# Altium schematic symbol library LAN Transformer.SchLib: 66 symbols
Pins are listed as number, name and electrical type; pins without a type are passive.

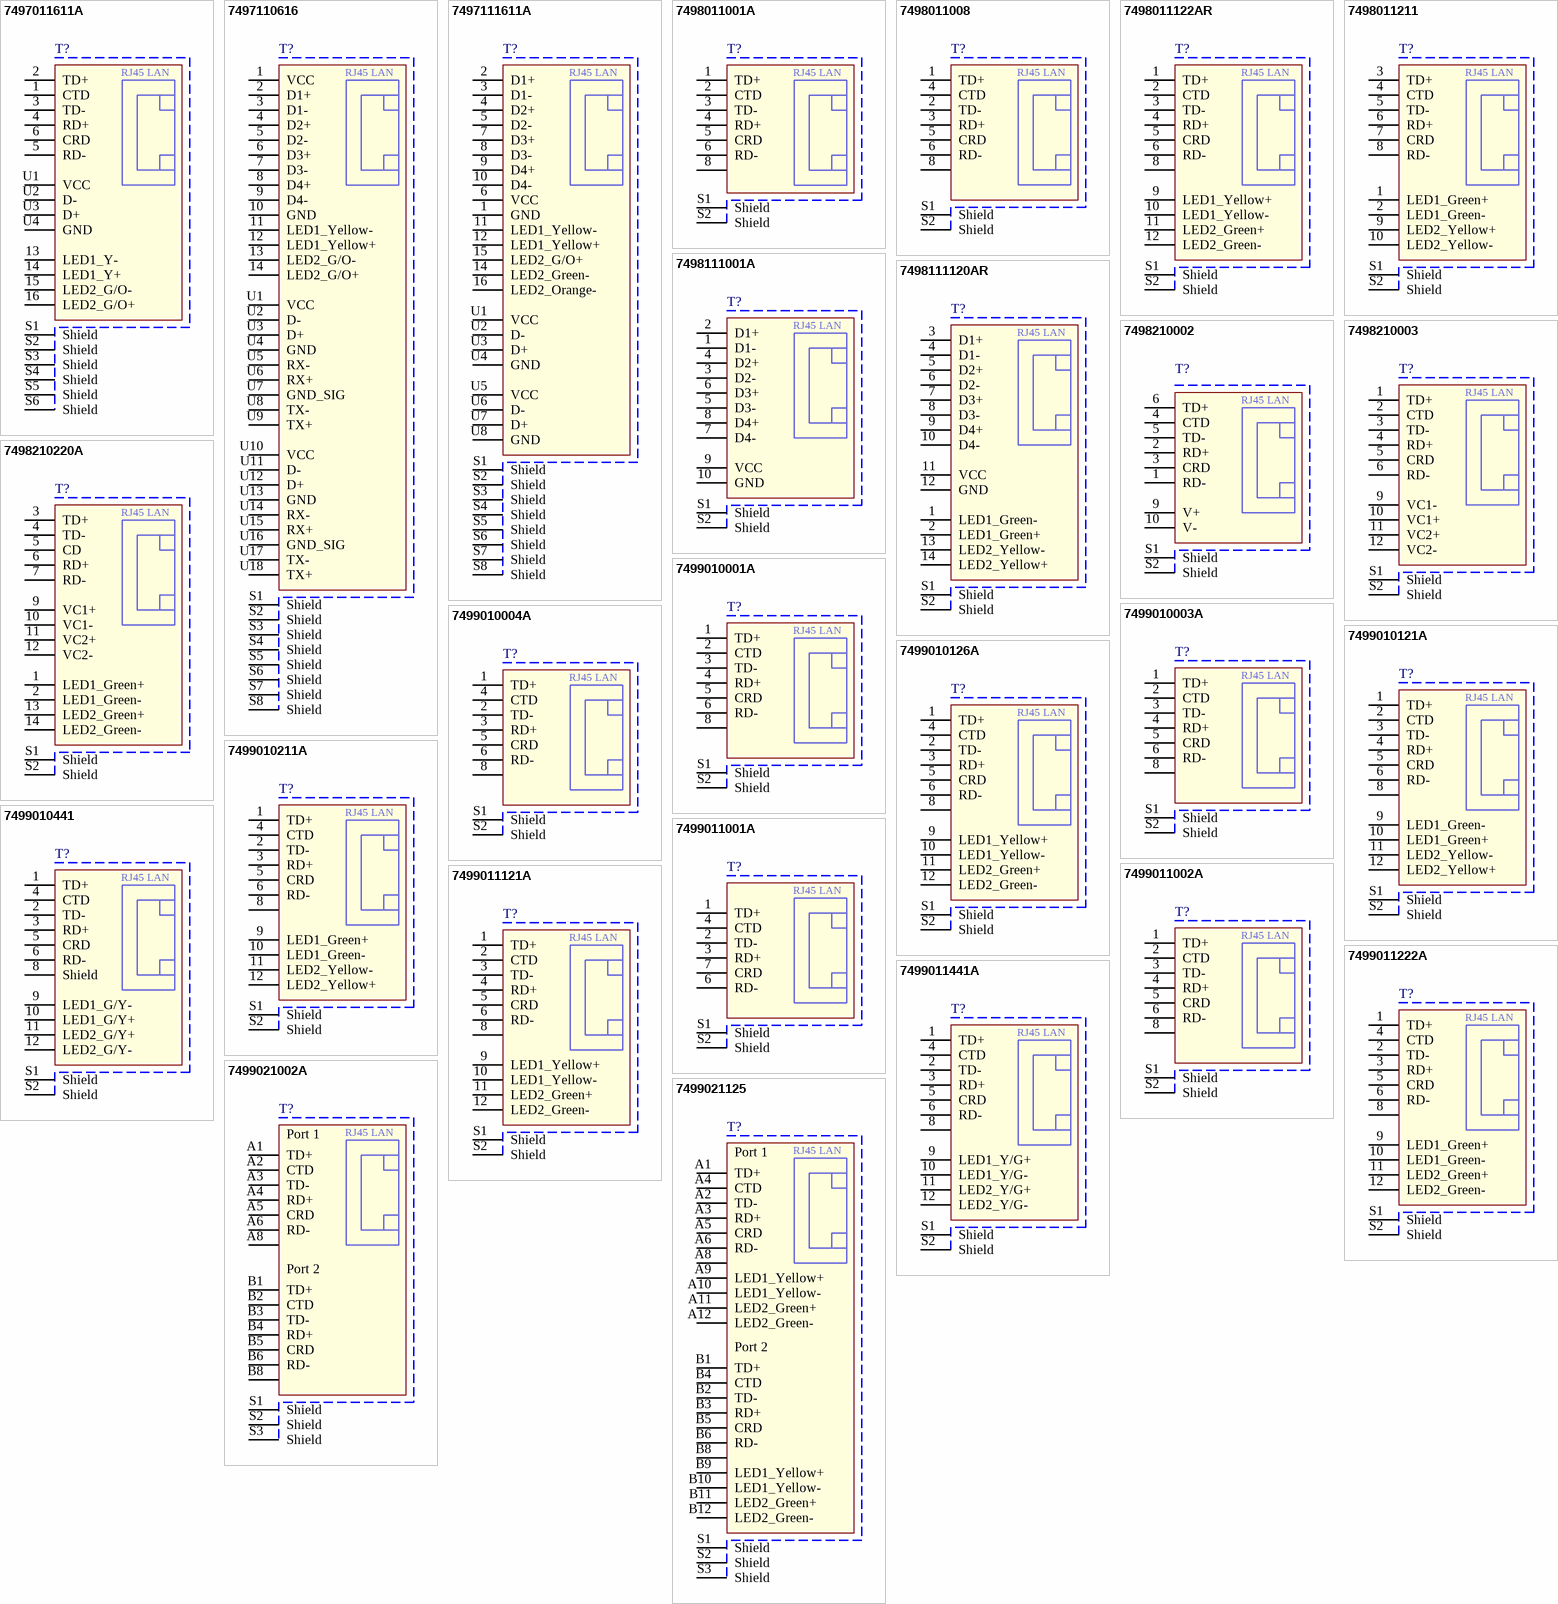
[diagram p0: symbols 7497011611A to 7499021125]

## 7497011611A
designator T?
WE-RJ45 LAN Transformer, 10/100 Base-T, THT, Port 1x1, Tab Up; Part Number: 7497011611A; PoE: non-PoE; LED (Left-Right): green/orange-yellow; USB: USB 2.0; ComponentLink1Description: Manufacturer; ComponentLink1URL: http://www.we-online.de; ComponentLink2Description: Datasheet; ComponentLink2URL: http://katalog.we-online.de/pbs/datasheet/7497011611A.pdf; Published Date: Dec. 2017; Publisher: Wurth Elektronik; Tab Position: Up; Port Number: 1x1; Data Rate: 10/100 Base-T; Operating Temperature: -40 to +85 degC; Mounting Technology: THT
footprint 7497011611A
pins: 1 CTD, 2 TD+, 3 TD-, 4 RD+, 5 RD-, 6 CRD, 13 LED1_Y-, 14 LED1_Y+, 15 LED2_G/O-, 16 LED2_G/O+, S1 Shield, S2 Shield, S3 Shield, S4 Shield, S5 Shield, S6 Shield, U1 VCC, U2 D-, U3 D+, U4 GND
text: RJ45 LAN

## 7497110616
designator T?
WE-RJ45 LAN Transformer, 10/100/1000 Base-T, THT, Port 1x1, Tab Up; Part Number: 7497110616; PoE: non-PoE; LED (Left-Right): yellow-green/orange; USB: USB 3.0; ComponentLink1Description: Manufacturer; ComponentLink1URL: http://www.we-online.de; ComponentLink2Description: Datasheet; ComponentLink2URL: http://katalog.we-online.de/pbs/datasheet/7497110616.pdf; Published Date: Dec. 2017; Publisher: Wurth Elektronik; Tab Position: Up; Port Number: 1x1; Data Rate: 10/100/1000 Base-T; Operating Temperature: -40 to +85 degC; Mounting Technology: THT
footprint 7497110616
pins: 1 VCC, 2 D1+, 3 D1-, 4 D2+, 5 D2-, 6 D3+, 7 D3-, 8 D4+, 9 D4-, 10 GND, 11 LED1_Yellow-, 12 LED1_Yellow+, 13 LED2_G/O-, 14 LED2_G/O+, S1 Shield, S2 Shield, S3 Shield, S4 Shield, S5 Shield, S6 Shield, S7 Shield, S8 Shield, U1 VCC, U2 D-, U3 D+, U4 GND, U5 RX-, U6 RX+, U7 GND_SIG, U8 TX-, U9 TX+, U10 VCC, U11 D-, U12 D+, U13 GND, U14 RX-, U15 RX+, U16 GND_SIG, U17 TX-, U18 TX+
text: RJ45 LAN

## 7497111611A
designator T?
WE-RJ45 LAN Transformer, 10/100/1000 Base-T, THT, Port 1x1, Tab Up; Part Number: 7497111611A; PoE: non-PoE; LED (Left-Right): green/orange-yellow; USB: USB 2.0; ComponentLink1Description: Manufacturer; ComponentLink1URL: http://www.we-online.de; ComponentLink2Description: Datasheet; ComponentLink2URL: http://katalog.we-online.de/pbs/datasheet/7497111611A.pdf; Published Date: Dec. 2017; Publisher: Wurth Elektronik; Tab Position: Up; Port Number: 1x1; Data Rate: 10/100/1000 Base-T; Operating Temperature: 0 to +70 degC; Mounting Technology: THT
footprint 7497111611A
pins: 1 GND, 2 D1+, 3 D1-, 4 D2+, 5 D2-, 6 VCC, 7 D3+, 8 D3-, 9 D4+, 10 D4-, 11 LED1_Yellow-, 12 LED1_Yellow+, 14 LED2_Green-, 15 LED2_G/O+, 16 LED2_Orange-, S1 Shield, S2 Shield, S3 Shield, S4 Shield, S5 Shield, S6 Shield, S7 Shield, S8 Shield, U1 VCC, U2 D-, U3 D+, U4 GND, U5 VCC, U6 D-, U7 D+, U8 GND
text: RJ45 LAN

## 7498011001A
designator T?
WE-RJ45 LAN Transformer, 10/100 Base-T, SMD, Port 1x1, Tab Down; Part Number: 7498011001A; PoE: non-PoE; LED (Left-Right): –; USB: No; ComponentLink1Description: Manufacturer; ComponentLink1URL: http://www.we-online.de; ComponentLink2Description: Datasheet; ComponentLink2URL: http://katalog.we-online.de/pbs/datasheet/7498011001A.pdf; Published Date: Dec. 2017; Publisher: Wurth Elektronik; Tab Position: Down; Port Number: 1x1; Data Rate: 10/100 Base-T; Operating Temperature: 0 to +70 degC; Mounting Technology: SMD
footprint 7498011001A
pins: 1 TD+, 2 CTD, 3 TD-, 4 RD+, 5 CRD, 6 RD-, 8, S1 Shield, S2 Shield
text: RJ45 LAN

## 7498011008
designator T?
WE-RJ45 LAN Transformer, 10/100 Base-T, SMD, Port 1x1, Tab Down; Part Number: 7498011008; PoE: non-PoE; LED (Left-Right): –; USB: No; ComponentLink1Description: Manufacturer; ComponentLink1URL: http://www.we-online.de; ComponentLink2Description: Datasheet; ComponentLink2URL: http://katalog.we-online.de/pbs/datasheet/7498011008.pdf; Published Date: Dec. 2017; Publisher: Wurth Elektronik; Tab Position: Down; Port Number: 1x1; Data Rate: 10/100 Base-T; Operating Temperature: -40 to +85 degC; Mounting Technology: SMD
footprint 7498011008
pins: 1 TD+, 2 TD-, 3 RD+, 4 CTD, 5 CRD, 6 RD-, 8, S1 Shield, S2 Shield
text: RJ45 LAN

## 7498011122AR
designator T?
WE-RJ45 LAN Transformer, 10/100 Base-T, SMD, Port 1x1, Tab Up; Part Number: 7498011122AR; PoE: non-PoE; LED (Left-Right): yellow-green; USB: No; ComponentLink1Description: Manufacturer; ComponentLink1URL: http://www.we-online.de; ComponentLink2Description: Datasheet; ComponentLink2URL: http://katalog.we-online.de/pbs/datasheet/7498011122AR.pdf; Published Date: Dec. 2017; Publisher: Wurth Elektronik; Tab Position: Up; Port Number: 1x1; Data Rate: 10/100 Base-T; Operating Temperature: -40 to +85 degC; Mounting Technology: SMD
footprint 7498011122AR
pins: 1 TD+, 2 CTD, 3 TD-, 4 RD+, 5 CRD, 6 RD-, 8, 9 LED1_Yellow+, 10 LED1_Yellow-, 11 LED2_Green+, 12 LED2_Green-, S1 Shield, S2 Shield
text: RJ45 LAN

## 7498011211
designator T?
WE-RJ45 LAN Transformer, 10/100 Base-T, SMD, Port 1x1, Tab Down; Part Number: 7498011211; PoE: non-PoE; LED (Left-Right): green-yellow; USB: No; ComponentLink1Description: Manufacturer; ComponentLink1URL: http://www.we-online.de; ComponentLink2Description: Datasheet; ComponentLink2URL: http://katalog.we-online.de/pbs/datasheet/7498011211.pdf; Published Date: Dec. 2017; Publisher: Wurth Elektronik; Tab Position: Down; Port Number: 1x1; Data Rate: 10/100 Base-T; Operating Temperature: 0 to +70 degC; Mounting Technology: SMD
footprint 7498011211
pins: 1 LED1_Green+, 2 LED1_Green-, 3 TD+, 4 CTD, 5 TD-, 6 RD+, 7 CRD, 8 RD-, 9 LED2_Yellow+, 10 LED2_Yellow-, S1 Shield, S2 Shield
text: RJ45 LAN

## 7498111001A
designator T?
WE-RJ45 LAN Transformer, 10/100/1000 Base-T, SMD, Port 1x1, Tab Up; Part Number: 7498111001A; PoE: non-PoE; LED (Left-Right): –; USB: No; ComponentLink1Description: Manufacturer; ComponentLink1URL: http://www.we-online.de; ComponentLink2Description: Datasheet; ComponentLink2URL: http://katalog.we-online.de/pbs/datasheet/7498111001A.pdf; Published Date: Dec. 2017; Publisher: Wurth Elektronik; Tab Position: Up; Port Number: 1x1; Data Rate: 10/100/1000 Base-T; Operating Temperature: 0 to +70 degC; Mounting Technology: SMD
footprint 7498111001A
pins: 1 D1-, 2 D1+, 3 D2-, 4 D2+, 5 D3-, 6 D3+, 7 D4-, 8 D4+, 9 VCC, 10 GND, S1 Shield, S2 Shield
text: RJ45 LAN

## 7498111120AR
designator T?
WE-RJ45 LAN Transformer, 10/100/1000 Base-T, SMD, Port 1x1, Tab Up; Part Number: 7498111120AR; PoE: non-PoE; LED (Left-Right): yellow-green; USB: No; ComponentLink1Description: Manufacturer; ComponentLink1URL: http://www.we-online.de; ComponentLink2Description: Datasheet; ComponentLink2URL: http://katalog.we-online.de/pbs/datasheet/7498111120AR.pdf; Published Date: Dec. 2017; Publisher: Wurth Elektronik; Tab Position: Up; Port Number: 1x1; Data Rate: 10/100/1000 Base-T; Operating Temperature: 0 to +70 degC; Mounting Technology: SMD
footprint 7498111120AR
pins: 1 LED1_Green-, 2 LED1_Green+, 3 D1+, 4 D1-, 5 D2+, 6 D2-, 7 D3+, 8 D3-, 9 D4+, 10 D4-, 11 VCC, 12 GND, 13 LED2_Yellow-, 14 LED2_Yellow+, S1 Shield, S2 Shield
text: RJ45 LAN

## 7498210002
designator T?
WE-RJ45 LAN Transformer, 10/100 Base-T, SMD, Port 1x1, Tab Down; Part Number: 7498210002; PoE: PoE (up to 350 mA); LED (Left-Right): –; USB: No; ComponentLink1Description: Manufacturer; ComponentLink1URL: http://www.we-online.de; ComponentLink2Description: Datasheet; ComponentLink2URL: http://katalog.we-online.de/pbs/datasheet/7498210002.pdf; Published Date: Dec. 2017; Publisher: Wurth Elektronik; Tab Position: Down; Port Number: 1x1; Data Rate: 10/100 Base-T; Operating Temperature: -40 to +85 degC; Mounting Technology: SMD
footprint 7498210002
pins: 1 RD-, 2 RD+, 3 CRD, 4 CTD, 5 TD-, 6 TD+, 9 V+, 10 V-, S1 Shield, S2 Shield
text: RJ45 LAN

## 7498210003
designator T?
WE-RJ45 LAN Transformer, 10/100 Base-T, SMD, Port 1x1, Tab Up; Part Number: 7498210003; PoE: PoE (up to 350 mA); LED (Left-Right): –; USB: No; ComponentLink1Description: Manufacturer; ComponentLink1URL: http://www.we-online.de; ComponentLink2Description: Datasheet; ComponentLink2URL: http://katalog.we-online.de/pbs/datasheet/7498210003.pdf; Published Date: Dec. 2017; Publisher: Wurth Elektronik; Tab Position: Up; Port Number: 1x1; Data Rate: 10/100 Base-T; Operating Temperature: -40 to +85 degC; Mounting Technology: SMD
footprint 7498210003
pins: 1 TD+, 2 CTD, 3 TD-, 4 RD+, 5 CRD, 6 RD-, 9 VC1-, 10 VC1+, 11 VC2+, 12 VC2-, S1 Shield, S2 Shield
text: RJ45 LAN

## 7498210220A
designator T?
WE-RJ45 LAN Transformer, 10/100 Base-T, SMD, Port 1x1, Tab Up; Part Number: 7498210220A; PoE: PoE (up to 350 mA); LED (Left-Right): green-green; USB: No; ComponentLink1Description: Manufacturer; ComponentLink1URL: http://www.we-online.de; ComponentLink2Description: Datasheet; ComponentLink2URL: http://katalog.we-online.de/pbs/datasheet/7498210220A.pdf; Published Date: Dec. 2017; Publisher: Wurth Elektronik; Tab Position: Up; Port Number: 1x1; Data Rate: 10/100 Base-T; Operating Temperature: -40 to +85 degC; Mounting Technology: SMD
footprint 7498210220A
pins: 1 LED1_Green+, 2 LED1_Green-, 3 TD+, 4 TD-, 5 CD, 6 RD+, 7 RD-, 9 VC1+, 10 VC1-, 11 VC2+, 12 VC2-, 13 LED2_Green+, 14 LED2_Green-, S1 Shield, S2 Shield
text: RJ45 LAN

## 7499010001A
designator T?
WE-RJ45 LAN Transformer, 10/100 Base-T, THT, Port 1x1, Tab Up; Part Number: 7499010001A; PoE: non-PoE; LED (Left-Right): –; USB: No; ComponentLink1Description: Manufacturer; ComponentLink1URL: http://www.we-online.de; ComponentLink2Description: Datasheet; ComponentLink2URL: http://katalog.we-online.de/pbs/datasheet/7499010001A.pdf; Published Date: Dec. 2017; Publisher: Wurth Elektronik; Tab Position: Up; Port Number: 1x1; Data Rate: 10/100 Base-T; Operating Temperature: 0 to +70 degC; Mounting Technology: THT
footprint 7499010001A
pins: 1 TD+, 2 CTD, 3 TD-, 4 RD+, 5 CRD, 6 RD-, 8 GND, S1 Shield, S2 Shield
text: RJ45 LAN

## 7499010003A
designator T?
WE-RJ45 LAN Transformer, 10/100 Base-T, THT, Port 1x1, Tab Up; Part Number: 7499010003A; PoE: non-PoE; LED (Left-Right): –; USB: No; ComponentLink1Description: Manufacturer; ComponentLink1URL: http://www.we-online.de; ComponentLink2Description: Datasheet; ComponentLink2URL: http://katalog.we-online.de/pbs/datasheet/7499010003A.pdf; Published Date: Dec. 2017; Publisher: Wurth Elektronik; Tab Position: Up; Port Number: 1x1; Data Rate: 10/100 Base-T; Operating Temperature: -40 to +85 degC; Mounting Technology: THT
footprint 7499010003A
pins: 1 TD+, 2 CTD, 3 TD-, 4 RD+, 5 CRD, 6 RD-, 8 GND, S1 Shield, S2 Shield
text: RJ45 LAN

## 7499010004A
designator T?
WE-RJ45 LAN Transformer, 10/100 Base-T, THT, Port 1x1, Tab Down; Part Number: 7499010004A; PoE: non-PoE; LED (Left-Right): –; USB: No; ComponentLink1Description: Manufacturer; ComponentLink1URL: http://www.we-online.de; ComponentLink2Description: Datasheet; ComponentLink2URL: http://katalog.we-online.de/pbs/datasheet/7499010004A.pdf; Published Date: Dec. 2017; Publisher: Wurth Elektronik; Tab Position: Down; Port Number: 1x1; Data Rate: 10/100 Base-T; Operating Temperature: 0 to +70 degC; Mounting Technology: THT
footprint 7499010004A
pins: 1 TD+, 2 TD-, 3 RD+, 4 CTD, 5 CRD, 6 RD-, 8, S1 Shield, S2 Shield
text: RJ45 LAN

## 7499010121A
designator T?
WE-RJ45 LAN Transformer, 10/100 Base-T, THT, Port 1x1, Tab Up; Part Number: 7499010121A; PoE: non-PoE; LED (Left-Right): yellow-green; USB: No; ComponentLink1Description: Manufacturer; ComponentLink1URL: http://www.we-online.de; ComponentLink2Description: Datasheet; ComponentLink2URL: http://katalog.we-online.de/pbs/datasheet/7499010121A.pdf; Published Date: Dec. 2017; Publisher: Wurth Elektronik; Tab Position: Up; Port Number: 1x1; Data Rate: 10/100 Base-T; Operating Temperature: 0 to +70 degC; Mounting Technology: THT
footprint 7499010121A
pins: 1 TD+, 2 CTD, 3 TD-, 4 RD+, 5 CRD, 6 RD-, 8, 9 LED1_Green-, 10 LED1_Green+, 11 LED2_Yellow-, 12 LED2_Yellow+, S1 Shield, S2 Shield
text: RJ45 LAN

## 7499010126A
designator T?
WE-RJ45 LAN Transformer, 10/100 Base-T, THT, Port 1x1, Tab Vertical; Part Number: 7499010126A; PoE: non-PoE; LED (Left-Right): yellow-green; USB: No; ComponentLink1Description: Manufacturer; ComponentLink1URL: http://www.we-online.de; ComponentLink2Description: Datasheet; ComponentLink2URL: http://katalog.we-online.de/pbs/datasheet/7499010126A.pdf; Published Date: Dec. 2017; Publisher: Wurth Elektronik; Tab Position: Vertical; Port Number: 1x1; Data Rate: 10/100 Base-T; Operating Temperature: -40 to +85 degC; Mounting Technology: THT
footprint 7499010126A
pins: 1 TD+, 2 TD-, 3 RD+, 4 CTD, 5 CRD, 6 RD-, 8, 9 LED1_Yellow+, 10 LED1_Yellow-, 11 LED2_Green+, 12 LED2_Green-, S1 Shield, S2 Shield
text: RJ45 LAN

## 7499010211A
designator T?
WE-RJ45 LAN Transformer, 10/100 Base-T, THT, Port 1x1, Tab Down; Part Number: 7499010211A; PoE: non-PoE; LED (Left-Right): green-yellow; USB: No; ComponentLink1Description: Manufacturer; ComponentLink1URL: http://www.we-online.de; ComponentLink2Description: Datasheet; ComponentLink2URL: http://katalog.we-online.de/pbs/datasheet/7499010211A.pdf; Published Date: Dec. 2017; Publisher: Wurth Elektronik; Tab Position: Down; Port Number: 1x1; Data Rate: 10/100 Base-T; Operating Temperature: 0 to +70 degC; Mounting Technology: THT
footprint 7499010211A
pins: 1 TD+, 2 TD-, 3 RD+, 4 CTD, 5 CRD, 6 RD-, 8, 9 LED1_Green+, 10 LED1_Green-, 11 LED2_Yellow-, 12 LED2_Yellow+, S1 Shield, S2 Shield
text: RJ45 LAN

## 7499010441
designator T?
WE-RJ45 LAN Transformer, 10/100 Base-T, THT, Port 1x1, Tab Down; Part Number: 7499010441; PoE: non-PoE; LED (Left-Right): green/yellow-green/yellow; USB: No; ComponentLink1Description: Manufacturer; ComponentLink1URL: http://www.we-online.de; ComponentLink2Description: Datasheet; ComponentLink2URL: http://katalog.we-online.de/pbs/datasheet/7499010441.pdf; Published Date: Dec. 2017; Publisher: Wurth Elektronik; Tab Position: Down; Port Number: 1x1; Data Rate: 10/100 Base-T; Operating Temperature: -40 to +85 degC; Mounting Technology: THT
footprint 7499010441
pins: 1 TD+, 2 TD-, 3 RD+, 4 CTD, 5 CRD, 6 RD-, 8 Shield, 9 LED1_G/Y-, 10 LED1_G/Y+, 11 LED2_G/Y+, 12 LED2_G/Y-, S1 Shield, S2 Shield
text: RJ45 LAN

## 7499011001A
designator T?
WE-RJ45 LAN Transformer, 10/100 Base-T, THT, Port 1x1, Tab Down; Part Number: 7499011001A; PoE: non-PoE; LED (Left-Right): –; USB: No; ComponentLink1Description: Manufacturer; ComponentLink1URL: http://www.we-online.de; ComponentLink2Description: Datasheet; ComponentLink2URL: http://katalog.we-online.de/pbs/datasheet/7499011001A.pdf; Published Date: Dec. 2017; Publisher: Wurth Elektronik; Tab Position: Down; Port Number: 1x1; Data Rate: 10/100 Base-T; Operating Temperature: -40 to +85 degC; Mounting Technology: THT
footprint 7499011001A
pins: 1 TD+, 2 TD-, 3 RD+, 4 CTD, 6 RD-, 7 CRD, S1 Shield, S2 Shield
text: RJ45 LAN

## 7499011002A
designator T?
WE-RJ45 LAN Transformer, 10/100 Base-T, THT, Port 1x1, Tab Down; Part Number: 7499011002A; PoE: non-PoE; LED (Left-Right): –; USB: No; ComponentLink1Description: Manufacturer; ComponentLink1URL: http://www.we-online.de; ComponentLink2Description: Datasheet; ComponentLink2URL: http://katalog.we-online.de/pbs/datasheet/7499011002A.pdf; Published Date: Dec. 2017; Publisher: Wurth Elektronik; Tab Position: Down; Port Number: 1x1; Data Rate: 10/100 Base-T; Operating Temperature: 0 to +70 degC; Mounting Technology: THT
footprint 7499011002A
pins: 1 TD+, 2 CTD, 3 TD-, 4 RD+, 5 CRD, 6 RD-, 8, S1 Shield, S2 Shield
text: RJ45 LAN

## 7499011121A
designator T?
WE-RJ45 LAN Transformer, 10/100 Base-T, THT, Port 1x1, Tab Down; Part Number: 7499011121A; PoE: non-PoE; LED (Left-Right): yellow-green; USB: No; ComponentLink1Description: Manufacturer; ComponentLink1URL: http://www.we-online.de; ComponentLink2Description: Datasheet; ComponentLink2URL: http://katalog.we-online.de/pbs/datasheet/7499011121A.pdf; Published Date: Dec. 2017; Publisher: Wurth Elektronik; Tab Position: Down; Port Number: 1x1; Data Rate: 10/100 Base-T; Operating Temperature: -40 to +85 degC; Mounting Technology: THT
footprint 7499011121A
pins: 1 TD+, 2 CTD, 3 TD-, 4 RD+, 5 CRD, 6 RD-, 8, 9 LED1_Yellow+, 10 LED1_Yellow-, 11 LED2_Green+, 12 LED2_Green-, S1 Shield, S2 Shield
text: RJ45 LAN

## 7499011222A
designator T?
WE-RJ45 LAN Transformer, 10/100 Base-T, THT, Port 1x1, Tab Down; Part Number: 7499011222A; PoE: non-PoE; LED (Left-Right): green-green; USB: No; ComponentLink1Description: Manufacturer; ComponentLink1URL: http://www.we-online.de; ComponentLink2Description: Datasheet; ComponentLink2URL: http://katalog.we-online.de/pbs/datasheet/7499011222A.pdf; Published Date: Dec. 2017; Publisher: Wurth Elektronik; Tab Position: Down; Port Number: 1x1; Data Rate: 10/100 Base-T; Operating Temperature: -40 to +85 degC; Mounting Technology: THT
footprint 7499011222A
pins: 1 TD+, 2 TD-, 3 RD+, 4 CTD, 5 CRD, 6 RD-, 8, 9 LED1_Green+, 10 LED1_Green-, 11 LED2_Green+, 12 LED2_Green-, S1 Shield, S2 Shield
text: RJ45 LAN

## 7499011441A
designator T?
WE-RJ45 LAN Transformer, 10/100 Base-T, THT, Port 1x1, Tab Up; Part Number: 7499011441A; PoE: non-PoE; LED (Left-Right): yellow/green-yellow/green; USB: No; ComponentLink1Description: Manufacturer; ComponentLink1URL: http://www.we-online.de; ComponentLink2Description: Datasheet; ComponentLink2URL: http://katalog.we-online.de/pbs/datasheet/7499011441A.pdf; Published Date: Dec. 2017; Publisher: Wurth Elektronik; Tab Position: Up; Port Number: 1x1; Data Rate: 10/100 Base-T; Operating Temperature: -40 to +85 degC; Mounting Technology: THT
footprint 7499011441A
pins: 1 TD+, 2 TD-, 3 RD+, 4 CTD, 5 CRD, 6 RD-, 8, 9 LED1_Y/G+, 10 LED1_Y/G-, 11 LED2_Y/G+, 12 LED2_Y/G-, S1 Shield, S2 Shield
text: RJ45 LAN

## 7499021002A
designator T?
WE-RJ45 LAN Transformer, 10/100 Base-T, THT, Port 1x2, Tab Down; Part Number: 7499021002A; PoE: non-PoE; LED (Left-Right): –; USB: No; ComponentLink1Description: Manufacturer; ComponentLink1URL: http://www.we-online.de; ComponentLink2Description: Datasheet; ComponentLink2URL: http://katalog.we-online.de/pbs/datasheet/7499021002A.pdf; Published Date: Dec. 2017; Publisher: Wurth Elektronik; Tab Position: Down; Port Number: 1x2; Data Rate: 10/100 Base-T; Operating Temperature: -40 to +85 degC; Mounting Technology: THT
footprint 7499021002A
pins: A1 TD+, A2 CTD, A3 TD-, A4 RD+, A5 CRD, A6 RD-, A8, B1 TD+, B2 CTD, B3 TD-, B4 RD+, B5 CRD, B6 RD-, B8, S1 Shield, S2 Shield, S3 Shield
text: Port 1; RJ45 LAN; Port 2

## 7499021125
designator T?
WE-RJ45 LAN Transformer, 10/100 Base-T, THT, Port 1x2, Tab Down; Part Number: 7499021125; PoE: non-PoE; LED (Left-Right): yellow-green; USB: No; ComponentLink1Description: Manufacturer; ComponentLink1URL: http://www.we-online.de; ComponentLink2Description: Datasheet; ComponentLink2URL: http://katalog.we-online.de/pbs/datasheet/7499021125.pdf; Published Date: Dec. 2017; Publisher: Wurth Elektronik; Tab Position: Down; Port Number: 1x2; Data Rate: 10/100 Base-T; Operating Temperature: 0 to +70 degC; Mounting Technology: THT
footprint 7499021125
pins: A1 TD+, A2 TD-, A3 RD+, A4 CTD, A5 CRD, A6 RD-, A8, A9 LED1_Yellow+, A10 LED1_Yellow-, A11 LED2_Green+, A12 LED2_Green-, B1 TD+, B2 TD-, B3 RD+, B4 CTD, B5 CRD, B6 RD-, B8, B9 LED1_Yellow+, B10 LED1_Yellow-, B11 LED2_Green+, B12 LED2_Green-, S1 Shield, S2 Shield, S3 Shield
text: Port 1; RJ45 LAN; Port 2

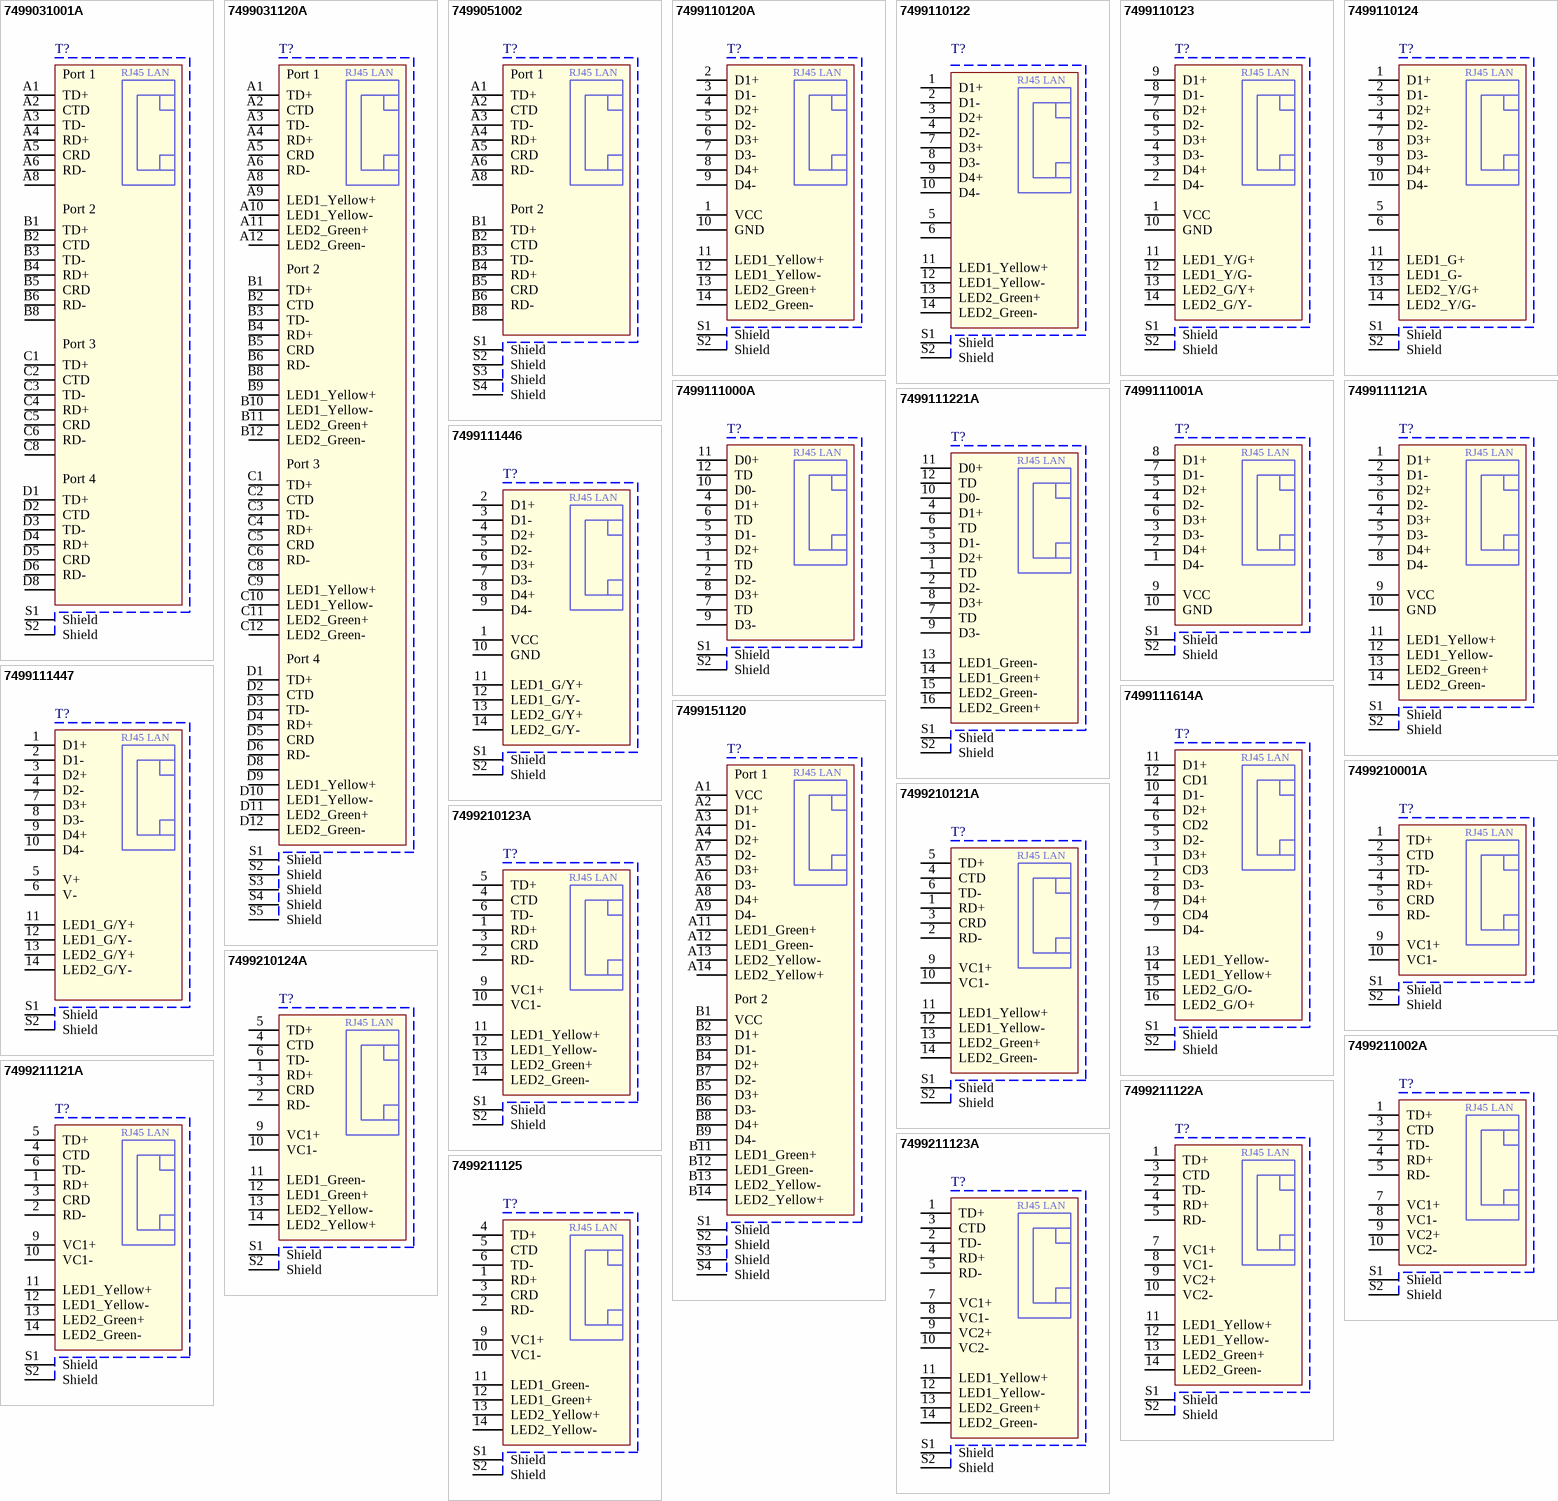
[diagram p1: symbols 7499031001A to 7499211125]

## 7499031001A
designator T?
WE-RJ45 LAN Transformer, 10/100 Base-T, THT, Port 1x4, Tab Down; Part Number: 7499031001A; PoE: non-PoE; LED (Left-Right): –; USB: No; ComponentLink1Description: Manufacturer; ComponentLink1URL: http://www.we-online.de; ComponentLink2Description: Datasheet; ComponentLink2URL: http://katalog.we-online.de/pbs/datasheet/7499031001A.pdf; Published Date: Dec. 2017; Publisher: Wurth Elektronik; Tab Position: Down; Port Number: 1x4; Data Rate: 10/100 Base-T; Operating Temperature: -40 to +85 degC; Mounting Technology: THT
footprint 7499031001A
pins: A1 TD+, A2 CTD, A3 TD-, A4 RD+, A5 CRD, A6 RD-, A8, B1 TD+, B2 CTD, B3 TD-, B4 RD+, B5 CRD, B6 RD-, B8, C1 TD+, C2 CTD, C3 TD-, C4 RD+, C5 CRD, C6 RD-, C8, D1 TD+, D2 CTD, D3 TD-, D4 RD+, D5 CRD, D6 RD-, D8, S1 Shield, S2 Shield
text: Port 1; RJ45 LAN; Port 2; Port 3; Port 4

## 7499031120A
designator T?
WE-RJ45 LAN Transformer, 10/100 Base-T, THT, Port 1x4, Tab Down; Part Number: 7499031120A; PoE: non-PoE; LED (Left-Right): yellow-green; USB: No; ComponentLink1Description: Manufacturer; ComponentLink1URL: http://www.we-online.de; ComponentLink2Description: Datasheet; ComponentLink2URL: http://katalog.we-online.de/pbs/datasheet/7499031120A.pdf; Published Date: Dec. 2017; Publisher: Wurth Elektronik; Tab Position: Down; Port Number: 1x4; Data Rate: 10/100 Base-T; Operating Temperature: -40 to +85 degC; Mounting Technology: THT
footprint 7499031120A
pins: A1 TD+, A2 CTD, A3 TD-, A4 RD+, A5 CRD, A6 RD-, A8, A9 LED1_Yellow+, A10 LED1_Yellow-, A11 LED2_Green+, A12 LED2_Green-, B1 TD+, B2 CTD, B3 TD-, B4 RD+, B5 CRD, B6 RD-, B8, B9 LED1_Yellow+, B10 LED1_Yellow-, B11 LED2_Green+, B12 LED2_Green-, C1 TD+, C2 CTD, C3 TD-, C4 RD+, C5 CRD, C6 RD-, C8, C9 LED1_Yellow+, C10 LED1_Yellow-, C11 LED2_Green+, C12 LED2_Green-, D1 TD+, D2 CTD, D3 TD-, D4 RD+, D5 CRD, D6 RD-, D8, D9 LED1_Yellow+, D10 LED1_Yellow-, D11 LED2_Green+, D12 LED2_Green-, S1 Shield, S2 Shield, S3 Shield, S4 Shield, S5 Shield
text: Port 1; RJ45 LAN; Port 2; Port 3; Port 4

## 7499051002
designator T?
WE-RJ45 LAN Transformer, 10/100 Base-T, THT, Port 2x1, Tab Up/Down; Part Number: 7499051002; PoE: non-PoE; LED (Left-Right): –; USB: No; ComponentLink1Description: Manufacturer; ComponentLink1URL: http://www.we-online.de; ComponentLink2Description: Datasheet; ComponentLink2URL: http://katalog.we-online.de/pbs/datasheet/7499051002.pdf; Published Date: Dec. 2017; Publisher: Wurth Elektronik; Tab Position: Up/Down; Port Number: 2x1; Data Rate: 10/100 Base-T; Operating Temperature: -40 to +85 degC; Mounting Technology: THT
footprint 7499051002
pins: A1 TD+, A2 CTD, A3 TD-, A4 RD+, A5 CRD, A6 RD-, A8, B1 TD+, B2 CTD, B3 TD-, B4 RD+, B5 CRD, B6 RD-, B8, S1 Shield, S2 Shield, S3 Shield, S4 Shield
text: Port 1; RJ45 LAN; Port 2

## 7499110120A
designator T?
WE-RJ45 LAN Transformer, 10/100/1000 Base-T, THT, Port 1x1, Tab Vertical; Part Number: 7499110120A; PoE: non-PoE; LED (Left-Right): yellow-green; USB: No; ComponentLink1Description: Manufacturer; ComponentLink1URL: http://www.we-online.de; ComponentLink2Description: Datasheet; ComponentLink2URL: http://katalog.we-online.de/pbs/datasheet/7499110120A.pdf; Published Date: Dec. 2017; Publisher: Wurth Elektronik; Tab Position: Vertical; Port Number: 1x1; Data Rate: 10/100/1000 Base-T; Operating Temperature: -40 to +85 degC; Mounting Technology: THT
footprint 7499110120A
pins: 1 VCC, 2 D1+, 3 D1-, 4 D2+, 5 D2-, 6 D3+, 7 D3-, 8 D4+, 9 D4-, 10 GND, 11 LED1_Yellow+, 12 LED1_Yellow-, 13 LED2_Green+, 14 LED2_Green-, S1 Shield, S2 Shield
text: RJ45 LAN

## 7499110122
designator T?
WE-RJ45 LAN Transformer, 10/100/1000 Base-T, THT, Port 1x1, Tab Down; Part Number: 7499110122; PoE: non-PoE; LED (Left-Right): yellow-green; USB: No; ComponentLink1Description: Manufacturer; ComponentLink1URL: http://www.we-online.de; ComponentLink2Description: Datasheet; ComponentLink2URL: http://katalog.we-online.de/pbs/datasheet/7499110122.pdf; Published Date: Dec. 2017; Publisher: Wurth Elektronik; Tab Position: Down; Port Number: 1x1; Data Rate: 10/100/1000 Base-T; Operating Temperature: 0 to +70 degC; Mounting Technology: THT
footprint 7499110122
pins: 1 D1+, 2 D1-, 3 D2+, 4 D2-, 5, 6, 7 D3+, 8 D3-, 9 D4+, 10 D4-, 11 LED1_Yellow+, 12 LED1_Yellow-, 13 LED2_Green+, 14 LED2_Green-, S1 Shield, S2 Shield
text: RJ45 LAN

## 7499110123
designator T?
WE-RJ45 LAN Transformer, 10/100/1000 Base-T, THT, Port 1x1, Tab Vertical; Part Number: 7499110123; PoE: non-PoE; LED (Left-Right): yellow/green-green/yellow; USB: No; ComponentLink1Description: Manufacturer; ComponentLink1URL: http://www.we-online.de; ComponentLink2Description: Datasheet; ComponentLink2URL: http://katalog.we-online.de/pbs/datasheet/7499110123.pdf; Published Date: Dec. 2017; Publisher: Wurth Elektronik; Tab Position: Vertical; Port Number: 1x1; Data Rate: 10/100/1000 Base-T; Operating Temperature: -40 to +85 degC; Mounting Technology: THT
footprint 7499110123
pins: 1 VCC, 2 D4-, 3 D4+, 4 D3-, 5 D3+, 6 D2-, 7 D2+, 8 D1-, 9 D1+, 10 GND, 11 LED1_Y/G+, 12 LED1_Y/G-, 13 LED2_G/Y+, 14 LED2_G/Y-, S1 Shield, S2 Shield
text: RJ45 LAN

## 7499110124
designator T?
WE-RJ45 LAN Transformer, 10/100/1000 Base-T, THT, Port 1x1, Tab Up; Part Number: 7499110124; PoE: non-PoE; LED (Left-Right): green-yellow/green; USB: No; ComponentLink1Description: Manufacturer; ComponentLink1URL: http://www.we-online.de; ComponentLink2Description: Datasheet; ComponentLink2URL: http://katalog.we-online.de/pbs/datasheet/7499110124.pdf; Published Date: Dec. 2017; Publisher: Wurth Elektronik; Tab Position: Up; Port Number: 1x1; Data Rate: 10/100/1000 Base-T; Operating Temperature: -40 to +85 degC; Mounting Technology: THT
footprint 7499110124
pins: 1 D1+, 2 D1-, 3 D2+, 4 D2-, 5, 6, 7 D3+, 8 D3-, 9 D4+, 10 D4-, 11 LED1_G+, 12 LED1_G-, 13 LED2_Y/G+, 14 LED2_Y/G-, S1 Shield, S2 Shield
text: RJ45 LAN

## 7499111000A
designator T?
WE-RJ45 LAN Transformer, 10/100/1000 Base-T, THT, Port 1x1, Tab Up; Part Number: 7499111000A; PoE: non-PoE; LED (Left-Right): –; USB: No; ComponentLink1Description: Manufacturer; ComponentLink1URL: http://www.we-online.de; ComponentLink2Description: Datasheet; ComponentLink2URL: http://katalog.we-online.de/pbs/datasheet/7499111000A.pdf; Published Date: Dec. 2017; Publisher: Wurth Elektronik; Tab Position: Up; Port Number: 1x1; Data Rate: 10/100/1000 Base-T; Operating Temperature: 0 to +70 degC; Mounting Technology: THT
footprint 7499111000A
pins: 1 TD, 2 D2-, 3 D2+, 4 D1+, 5 D1-, 6 TD, 7 TD, 8 D3+, 9 D3-, 10 D0-, 11 D0+, 12 TD, S1 Shield, S2 Shield
text: RJ45 LAN

## 7499111001A
designator T?
WE-RJ45 LAN Transformer, 10/100/1000 Base-T, THT, Port 1x1, Tab Down; Part Number: 7499111001A; PoE: non-PoE; LED (Left-Right): –; USB: No; ComponentLink1Description: Manufacturer; ComponentLink1URL: http://www.we-online.de; ComponentLink2Description: Datasheet; ComponentLink2URL: http://katalog.we-online.de/pbs/datasheet/7499111001A.pdf; Published Date: Dec. 2017; Publisher: Wurth Elektronik; Tab Position: Down; Port Number: 1x1; Data Rate: 10/100/1000 Base-T; Operating Temperature: 0 to +70 degC; Mounting Technology: THT
footprint 7499111001A
pins: 1 D4-, 2 D4+, 3 D3-, 4 D2-, 5 D2+, 6 D3+, 7 D1-, 8 D1+, 9 VCC, 10 GND, S1 Shield, S2 Shield
text: RJ45 LAN

## 7499111121A
designator T?
WE-RJ45 LAN Transformer, 10/100/1000 Base-T, THT, Port 1x1, Tab Down; Part Number: 7499111121A; PoE: non-PoE; LED (Left-Right): yellow-green; USB: No; ComponentLink1Description: Manufacturer; ComponentLink1URL: http://www.we-online.de; ComponentLink2Description: Datasheet; ComponentLink2URL: http://katalog.we-online.de/pbs/datasheet/7499111121A.pdf; Published Date: Dec. 2017; Publisher: Wurth Elektronik; Tab Position: Down; Port Number: 1x1; Data Rate: 10/100/1000 Base-T; Operating Temperature: -40 to +85 degC; Mounting Technology: THT
footprint 7499111121A
pins: 1 D1+, 2 D1-, 3 D2+, 4 D3+, 5 D3-, 6 D2-, 7 D4+, 8 D4-, 9 VCC, 10 GND, 11 LED1_Yellow+, 12 LED1_Yellow-, 13 LED2_Green+, 14 LED2_Green-, S1 Shield, S2 Shield
text: RJ45 LAN

## 7499111221A
designator T?
WE-RJ45 LAN Transformer, 10/100/1000 Base-T, THT, Port 1x1, Tab Up; Part Number: 7499111221A; PoE: non-PoE; LED (Left-Right): green-green; USB: No; ComponentLink1Description: Manufacturer; ComponentLink1URL: http://www.we-online.de; ComponentLink2Description: Datasheet; ComponentLink2URL: http://katalog.we-online.de/pbs/datasheet/7499111221A.pdf; Published Date: Dec. 2017; Publisher: Wurth Elektronik; Tab Position: Up; Port Number: 1x1; Data Rate: 10/100/1000 Base-T; Operating Temperature: 0 to +70 degC; Mounting Technology: THT
footprint 7499111221A
pins: 1 TD, 2 D2-, 3 D2+, 4 D1+, 5 D1-, 6 TD, 7 TD, 8 D3+, 9 D3-, 10 D0-, 11 D0+, 12 TD, 13 LED1_Green-, 14 LED1_Green+, 15 LED2_Green-, 16 LED2_Green+, S1 Shield, S2 Shield
text: RJ45 LAN

## 7499111446
designator T?
WE-RJ45 LAN Transformer, 10/100/1000 Base-T, THT, Port 1x1, Tab Down; Part Number: 7499111446; PoE: non-PoE; LED (Left-Right): green/yellow-green/yellow; USB: No; ComponentLink1Description: Manufacturer; ComponentLink1URL: http://www.we-online.de; ComponentLink2Description: Datasheet; ComponentLink2URL: http://katalog.we-online.de/pbs/datasheet/7499111446.pdf; Published Date: Dec. 2017; Publisher: Wurth Elektronik; Tab Position: Down; Port Number: 1x1; Data Rate: 10/100/1000 Base-T; Operating Temperature: -40 to +85 degC; Mounting Technology: THT
footprint 7499111446
pins: 1 VCC, 2 D1+, 3 D1-, 4 D2+, 5 D2-, 6 D3+, 7 D3-, 8 D4+, 9 D4-, 10 GND, 11 LED1_G/Y+, 12 LED1_G/Y-, 13 LED2_G/Y+, 14 LED2_G/Y-, S1 Shield, S2 Shield
text: RJ45 LAN

## 7499111447
designator T?
WE-RJ45 LAN Transformer, 10/100/1000 Base-T, THT, Port 1x1, Tab Up; Part Number: 7499111447; PoE: non-PoE; LED (Left-Right): green/yellow-green/yellow; USB: No; ComponentLink1Description: Manufacturer; ComponentLink1URL: http://www.we-online.de; ComponentLink2Description: Datasheet; ComponentLink2URL: http://katalog.we-online.de/pbs/datasheet/7499111447.pdf; Published Date: Dec. 2017; Publisher: Wurth Elektronik; Tab Position: Up; Port Number: 1x1; Data Rate: 10/100/1000 Base-T; Operating Temperature: -40 to +85 degC; Mounting Technology: THT
footprint 7499111447
pins: 1 D1+, 2 D1-, 3 D2+, 4 D2-, 5 V+, 6 V-, 7 D3+, 8 D3-, 9 D4+, 10 D4-, 11 LED1_G/Y+, 12 LED1_G/Y-, 13 LED2_G/Y+, 14 LED2_G/Y-, S1 Shield, S2 Shield
text: RJ45 LAN

## 7499111614A
designator T?
WE-RJ45 LAN Transformer, 10/100/1000 Base-T, THT, Port 1x1, Tab Up; Part Number: 7499111614A; PoE: non-PoE; LED (Left-Right): green/orange-yellow; USB: No; ComponentLink1Description: Manufacturer; ComponentLink1URL: http://www.we-online.de; ComponentLink2Description: Datasheet; ComponentLink2URL: http://katalog.we-online.de/pbs/datasheet/7499111614A.pdf; Published Date: Dec. 2017; Publisher: Wurth Elektronik; Tab Position: Up; Port Number: 1x1; Data Rate: 10/100/1000 Base-T; Operating Temperature: 0 to +70 degC; Mounting Technology: THT
footprint 7499111614A
pins: 1 CD3, 2 D3-, 3 D3+, 4 D2+, 5 D2-, 6 CD2, 7 CD4, 8 D4+, 9 D4-, 10 D1-, 11 D1+, 12 CD1, 13 LED1_Yellow-, 14 LED1_Yellow+, 15 LED2_G/O-, 16 LED2_G/O+, S1 Shield, S2 Shield
text: RJ45 LAN

## 7499151120
designator T?
WE-RJ45 LAN Transformer, 10/100/1000 Base-T, THT, Port 2x1, Tab Up/Down; Part Number: 7499151120; PoE: non-PoE; LED (Left-Right): yellow-green; USB: No; ComponentLink1Description: Manufacturer; ComponentLink1URL: http://www.we-online.de; ComponentLink2Description: Datasheet; ComponentLink2URL: http://katalog.we-online.de/pbs/datasheet/7499151120.pdf; Published Date: Dec. 2017; Publisher: Wurth Elektronik; Tab Position: Up/Down; Port Number: 2x1; Data Rate: 10/100/1000 Base-T; Operating Temperature: -40 to +85 degC; Mounting Technology: THT
footprint 7499151120
pins: A1 VCC, A2 D1+, A3 D1-, A4 D2+, A5 D3+, A6 D3-, A7 D2-, A8 D4+, A9 D4-, A11 LED1_Green+, A12 LED1_Green-, A13 LED2_Yellow-, A14 LED2_Yellow+, B1 VCC, B2 D1+, B3 D1-, B4 D2+, B5 D3+, B6 D3-, B7 D2-, B8 D4+, B9 D4-, B11 LED1_Green+, B12 LED1_Green-, B13 LED2_Yellow-, B14 LED2_Yellow+, S1 Shield, S2 Shield, S3 Shield, S4 Shield
text: Port 1; RJ45 LAN; Port 2

## 7499210001A
designator T?
WE-RJ45 LAN Transformer, 10/100 Base-T, THT, Port 1x1, Tab Up; Part Number: 7499210001A; PoE: PoE (up to 350 mA); LED (Left-Right): –; USB: No; ComponentLink1Description: Manufacturer; ComponentLink1URL: http://www.we-online.de; ComponentLink2Description: Datasheet; ComponentLink2URL: http://katalog.we-online.de/pbs/datasheet/7499210001A.pdf; Published Date: Dec. 2017; Publisher: Wurth Elektronik; Tab Position: Up; Port Number: 1x1; Data Rate: 10/100 Base-T; Operating Temperature: -40 to +85 degC; Mounting Technology: THT
footprint 7499210001A
pins: 1 TD+, 2 CTD, 3 TD-, 4 RD+, 5 CRD, 6 RD-, 9 VC1+, 10 VC1-, S1 Shield, S2 Shield
text: RJ45 LAN

## 7499210121A
designator T?
WE-RJ45 LAN Transformer, 10/100 Base-T, THT, Port 1x1, Tab Down; Part Number: 7499210121A; PoE: PoE (up to 350 mA); LED (Left-Right): yellow-green; USB: No; ComponentLink1Description: Manufacturer; ComponentLink1URL: http://www.we-online.de; ComponentLink2Description: Datasheet; ComponentLink2URL: http://katalog.we-online.de/pbs/datasheet/7499210121A.pdf; Published Date: Dec. 2017; Publisher: Wurth Elektronik; Tab Position: Down; Port Number: 1x1; Data Rate: 10/100 Base-T; Operating Temperature: -40 to +85 degC; Mounting Technology: THT
footprint 7499210121A
pins: 1 RD+, 2 RD-, 3 CRD, 4 CTD, 5 TD+, 6 TD-, 9 VC1+, 10 VC1-, 11 LED1_Yellow+, 12 LED1_Yellow-, 13 LED2_Green+, 14 LED2_Green-, S1 Shield, S2 Shield
text: RJ45 LAN

## 7499210123A
designator T?
WE-RJ45 LAN Transformer, 10/100 Base-T, THT, Port 1x1, Tab Vertical; Part Number: 7499210123A; PoE: PoE (up to 350 mA); LED (Left-Right): yellow-green; USB: No; ComponentLink1Description: Manufacturer; ComponentLink1URL: http://www.we-online.de; ComponentLink2Description: Datasheet; ComponentLink2URL: http://katalog.we-online.de/pbs/datasheet/7499210123A.pdf; Published Date: Dec. 2017; Publisher: Wurth Elektronik; Tab Position: Vertical; Port Number: 1x1; Data Rate: 10/100 Base-T; Operating Temperature: -40 to +85 degC; Mounting Technology: THT
footprint 7499210123A
pins: 1 RD+, 2 RD-, 3 CRD, 4 CTD, 5 TD+, 6 TD-, 9 VC1+, 10 VC1-, 11 LED1_Yellow+, 12 LED1_Yellow-, 13 LED2_Green+, 14 LED2_Green-, S1 Shield, S2 Shield
text: RJ45 LAN

## 7499210124A
designator T?
WE-RJ45 LAN Transformer, 10/100 Base-T, THT, Port 1x1, Tab Up; Part Number: 7499210124A; PoE: PoE (up to 350 mA); LED (Left-Right): yellow-green; USB: No; ComponentLink1Description: Manufacturer; ComponentLink1URL: http://www.we-online.de; ComponentLink2Description: Datasheet; ComponentLink2URL: http://katalog.we-online.de/pbs/datasheet/7499210124A.pdf; Published Date: Dec. 2017; Publisher: Wurth Elektronik; Tab Position: Up; Port Number: 1x1; Data Rate: 10/100 Base-T; Operating Temperature: -40 to +85 degC; Mounting Technology: THT
footprint 7499210124A
pins: 1 RD+, 2 RD-, 3 CRD, 4 CTD, 5 TD+, 6 TD-, 9 VC1+, 10 VC1-, 11 LED1_Green-, 12 LED1_Green+, 13 LED2_Yellow-, 14 LED2_Yellow+, S1 Shield, S2 Shield
text: RJ45 LAN

## 7499211002A
designator T?
WE-RJ45 LAN Transformer, 10/100 Base-T, THT, Port 1x1, Tab Down; Part Number: 7499211002A; PoE: PoE (up to 350 mA); LED (Left-Right): –; USB: No; ComponentLink1Description: Manufacturer; ComponentLink1URL: http://www.we-online.de; ComponentLink2Description: Datasheet; ComponentLink2URL: http://katalog.we-online.de/pbs/datasheet/7499211002A.pdf; Published Date: Dec. 2017; Publisher: Wurth Elektronik; Tab Position: Down; Port Number: 1x1; Data Rate: 10/100 Base-T; Operating Temperature: 0 to +70 degC; Mounting Technology: THT
footprint 7499211002A
pins: 1 TD+, 2 TD-, 3 CTD, 4 RD+, 5 RD-, 7 VC1+, 8 VC1-, 9 VC2+, 10 VC2-, S1 Shield, S2 Shield
text: RJ45 LAN

## 7499211121A
designator T?
WE-RJ45 LAN Transformer, 10/100 Base-T, THT, Port 1x1, Tab Down; Part Number: 7499211121A; PoE: PoE (up to 350 mA); LED (Left-Right): yellow-green; USB: No; ComponentLink1Description: Manufacturer; ComponentLink1URL: http://www.we-online.de; ComponentLink2Description: Datasheet; ComponentLink2URL: http://katalog.we-online.de/pbs/datasheet/7499211121A.pdf; Published Date: Dec. 2017; Publisher: Wurth Elektronik; Tab Position: Down; Port Number: 1x1; Data Rate: 10/100 Base-T; Operating Temperature: -40 to +85 degC; Mounting Technology: THT
footprint 7499211121A
pins: 1 RD+, 2 RD-, 3 CRD, 4 CTD, 5 TD+, 6 TD-, 9 VC1+, 10 VC1-, 11 LED1_Yellow+, 12 LED1_Yellow-, 13 LED2_Green+, 14 LED2_Green-, S1 Shield, S2 Shield
text: RJ45 LAN

## 7499211122A
designator T?
WE-RJ45 LAN Transformer, 10/100 Base-T, THT, Port 1x1, Tab Down; Part Number: 7499211122A; PoE: PoE (up to 350 mA); LED (Left-Right): yellow-green; USB: No; ComponentLink1Description: Manufacturer; ComponentLink1URL: http://www.we-online.de; ComponentLink2Description: Datasheet; ComponentLink2URL: http://katalog.we-online.de/pbs/datasheet/7499211122A.pdf; Published Date: Dec. 2017; Publisher: Wurth Elektronik; Tab Position: Down; Port Number: 1x1; Data Rate: 10/100 Base-T; Operating Temperature: 0 to +70 degC; Mounting Technology: THT
footprint 7499211122A
pins: 1 TD+, 2 TD-, 3 CTD, 4 RD+, 5 RD-, 7 VC1+, 8 VC1-, 9 VC2+, 10 VC2-, 11 LED1_Yellow+, 12 LED1_Yellow-, 13 LED2_Green+, 14 LED2_Green-, S1 Shield, S2 Shield
text: RJ45 LAN

## 7499211123A
designator T?
WE-RJ45 LAN Transformer, 10/100 Base-T, THT, Port 1x1, Tab Down; Part Number: 7499211123A; PoE: PoE (up to 350 mA); LED (Left-Right): yellow-green; USB: No; ComponentLink1Description: Manufacturer; ComponentLink1URL: http://www.we-online.de; ComponentLink2Description: Datasheet; ComponentLink2URL: http://katalog.we-online.de/pbs/datasheet/7499211123A.pdf; Published Date: Dec. 2017; Publisher: Wurth Elektronik; Tab Position: Down; Port Number: 1x1; Data Rate: 10/100 Base-T; Operating Temperature: 0 to +70 degC; Mounting Technology: THT
footprint 7499211123A
pins: 1 TD+, 2 TD-, 3 CTD, 4 RD+, 5 RD-, 7 VC1+, 8 VC1-, 9 VC2+, 10 VC2-, 11 LED1_Yellow+, 12 LED1_Yellow-, 13 LED2_Green+, 14 LED2_Green-, S1 Shield, S2 Shield
text: RJ45 LAN

## 7499211125
designator T?
WE-RJ45 LAN Transformer, 10/100 Base-T, THT, Port 1x1, Tab Up; Part Number: 7499211125; PoE: PoE (up to 350 mA); LED (Left-Right): yellow-green; USB: No; ComponentLink1Description: Manufacturer; ComponentLink1URL: http://www.we-online.de; ComponentLink2Description: Datasheet; ComponentLink2URL: http://katalog.we-online.de/pbs/datasheet/7499211125.pdf; Published Date: Dec. 2017; Publisher: Wurth Elektronik; Tab Position: Up; Port Number: 1x1; Data Rate: 10/100 Base-T; Operating Temperature: -40 to +85 degC; Mounting Technology: THT
footprint 7499211125
pins: 1 RD+, 2 RD-, 3 CRD, 4 TD+, 5 CTD, 6 TD-, 9 VC1+, 10 VC1-, 11 LED1_Green-, 12 LED1_Green+, 13 LED2_Yellow+, 14 LED2_Yellow-, S1 Shield, S2 Shield
text: RJ45 LAN

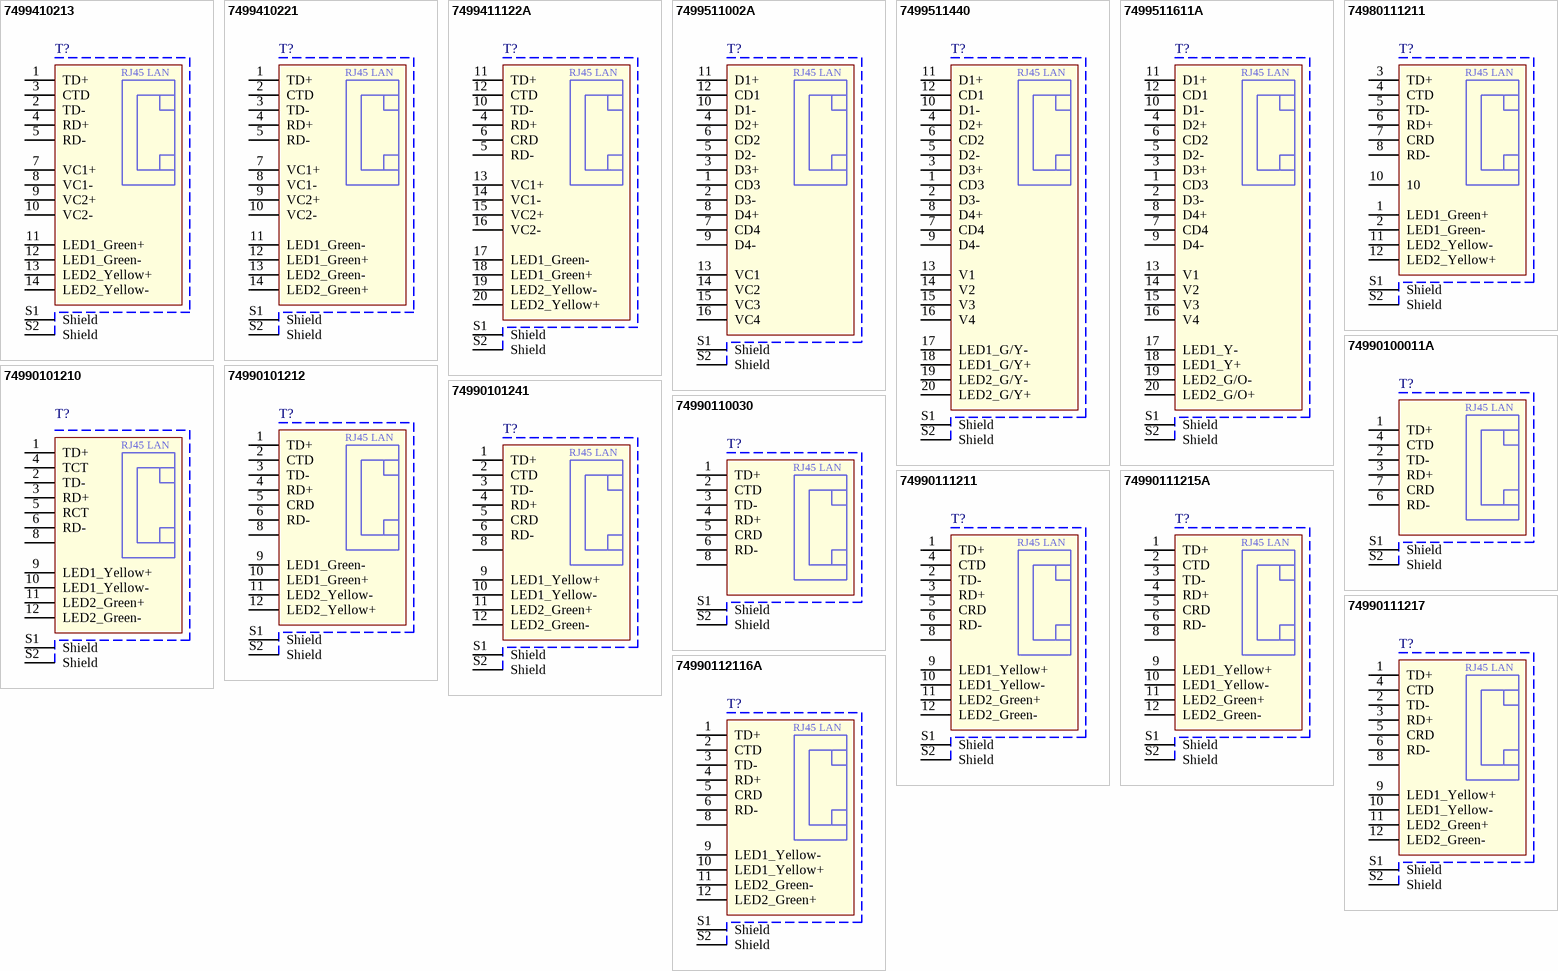
[diagram p2: symbols 7499410213 to 74990112116A]

## 7499410213
designator T?
WE-RJ45 LAN Transformer, 10/100 Base-T, THT, Port 1x1, Tab Down; Part Number: 7499410213; PoE: PoE+ (over 350 mA); LED (Left-Right): yellow-green; USB: No; ComponentLink1Description: Manufacturer; ComponentLink1URL: http://www.we-online.de; ComponentLink2Description: Datasheet; ComponentLink2URL: http://katalog.we-online.de/pbs/datasheet/7499410213.pdf; Published Date: Dec. 2017; Publisher: Wurth Elektronik; Tab Position: Down; Port Number: 1x1; Data Rate: 10/100 Base-T; Operating Temperature: -40 to +85 degC; Mounting Technology: THT
footprint 7499410213
pins: 1 TD+, 2 TD-, 3 CTD, 4 RD+, 5 RD-, 7 VC1+, 8 VC1-, 9 VC2+, 10 VC2-, 11 LED1_Green+, 12 LED1_Green-, 13 LED2_Yellow+, 14 LED2_Yellow-, S1 Shield, S2 Shield
text: RJ45 LAN

## 7499410221
designator T?
WE-RJ45 LAN Transformer, 10/100 Base-T, THT, Port 1x1, Tab Vertical; Part Number: 7499410221; PoE: PoE+ (over 350 mA); LED (Left-Right): green-green; USB: No; ComponentLink1Description: Manufacturer; ComponentLink1URL: http://www.we-online.de; ComponentLink2Description: Datasheet; ComponentLink2URL: http://katalog.we-online.de/pbs/datasheet/7499410221.pdf; Published Date: Dec. 2017; Publisher: Wurth Elektronik; Tab Position: Vertical; Port Number: 1x1; Data Rate: 10/100 Base-T; Operating Temperature: 0 to +70 degC; Mounting Technology: THT
footprint 7499410221
pins: 1 TD+, 2 CTD, 3 TD-, 4 RD+, 5 RD-, 7 VC1+, 8 VC1-, 9 VC2+, 10 VC2-, 11 LED1_Green-, 12 LED1_Green+, 13 LED2_Green-, 14 LED2_Green+, S1 Shield, S2 Shield
text: RJ45 LAN

## 7499411122A
designator T?
WE-RJ45 LAN Transformer, 10/100 Base-T, THT, Port 1x1, Tab Up; Part Number: 7499411122A; PoE: PoE+ (over 350 mA); LED (Left-Right): yellow-green; USB: No; ComponentLink1Description: Manufacturer; ComponentLink1URL: http://www.we-online.de; ComponentLink2Description: Datasheet; ComponentLink2URL: http://katalog.we-online.de/pbs/datasheet/7499411122A.pdf; Published Date: Dec. 2017; Publisher: Wurth Elektronik; Tab Position: Up; Port Number: 1x1; Data Rate: 10/100 Base-T; Operating Temperature: 0 to +70 degC; Mounting Technology: THT
footprint 7499411122A
pins: 4 RD+, 5 RD-, 6 CRD, 10 TD-, 11 TD+, 12 CTD, 13 VC1+, 14 VC1-, 15 VC2+, 16 VC2-, 17 LED1_Green-, 18 LED1_Green+, 19 LED2_Yellow-, 20 LED2_Yellow+, S1 Shield, S2 Shield
text: RJ45 LAN

## 7499511002A
designator T?
WE-RJ45 LAN Transformer, 10/100/1000 Base-T, THT, Port 1x1, Tab Up; Part Number: 7499511002A; PoE: PoE+ (over 350 mA); LED (Left-Right): –; USB: No; ComponentLink1Description: Manufacturer; ComponentLink1URL: http://www.we-online.de; ComponentLink2Description: Datasheet; ComponentLink2URL: http://katalog.we-online.de/pbs/datasheet/7499511002A.pdf; Published Date: Dec. 2017; Publisher: Wurth Elektronik; Tab Position: Up; Port Number: 1x1; Data Rate: 10/100/1000 Base-T; Operating Temperature: -40 to +85 degC; Mounting Technology: THT
footprint 7499511002A
pins: 1 CD3, 2 D3-, 3 D3+, 4 D2+, 5 D2-, 6 CD2, 7 CD4, 8 D4+, 9 D4-, 10 D1-, 11 D1+, 12 CD1, 13 VC1, 14 VC2, 15 VC3, 16 VC4, S1 Shield, S2 Shield
text: RJ45 LAN

## 7499511440
designator T?
WE-RJ45 LAN Transformer, 10/100/1000 Base-T, THT, Port 1x1, Tab Up; Part Number: 7499511440; PoE: PoE+ (over 350 mA); LED (Left-Right): green/yellow-green/yellow; USB: No; ComponentLink1Description: Manufacturer; ComponentLink1URL: http://www.we-online.de; ComponentLink2Description: Datasheet; ComponentLink2URL: http://katalog.we-online.de/pbs/datasheet/7499511440.pdf; Published Date: Dec. 2017; Publisher: Wurth Elektronik; Tab Position: Up; Port Number: 1x1; Data Rate: 10/100/1000 Base-T; Operating Temperature: -40 to +85 degC; Mounting Technology: THT
footprint 7499511440
pins: 1 CD3, 2 D3-, 3 D3+, 4 D2+, 5 D2-, 6 CD2, 7 CD4, 8 D4+, 9 D4-, 10 D1-, 11 D1+, 12 CD1, 13 V1, 14 V2, 15 V3, 16 V4, 17 LED1_G/Y-, 18 LED1_G/Y+, 19 LED2_G/Y-, 20 LED2_G/Y+, S1 Shield, S2 Shield
text: RJ45 LAN

## 7499511611A
designator T?
WE-RJ45 LAN Transformer, 10/100/1000 Base-T, THT, Port 1x1, Tab Up; Part Number: 7499511611A; PoE: PoE+ (over 350 mA); LED (Left-Right): green/orange-yellow; USB: No; ComponentLink1Description: Manufacturer; ComponentLink1URL: http://www.we-online.de; ComponentLink2Description: Datasheet; ComponentLink2URL: http://katalog.we-online.de/pbs/datasheet/7499511611A.pdf; Published Date: Dec. 2017; Publisher: Wurth Elektronik; Tab Position: Up; Port Number: 1x1; Data Rate: 10/100/1000 Base-T; Operating Temperature: 0 to +70 degC; Mounting Technology: THT
footprint 7499511611A
pins: 1 CD3, 2 D3-, 3 D3+, 4 D2+, 5 D2-, 6 CD2, 7 CD4, 8 D4+, 9 D4-, 10 D1-, 11 D1+, 12 CD1, 13 V1, 14 V2, 15 V3, 16 V4, 17 LED1_Y-, 18 LED1_Y+, 19 LED2_G/O-, 20 LED2_G/O+, S1 Shield, S2 Shield
text: RJ45 LAN

## 74980111211
designator T?
WE-RJ45 LAN Transformer, 10/100 Base-T, SMD, Port 1x1, Tab Up; Part Number: 74980111211; PoE: non-PoE; LED (Left-Right): yellow-green; USB: No; ComponentLink1Description: Manufacturer; ComponentLink1URL: http://www.we-online.de; ComponentLink2Description: Datasheet; ComponentLink2URL: http://katalog.we-online.de/pbs/datasheet/74980111211.pdf; Published Date: Dec. 2017; Publisher: Wurth Elektronik; Tab Position: Up; Port Number: 1x1; Data Rate: 10/100 Base-T; Operating Temperature: -40 to +85 degC; Mounting Technology: SMD
footprint 74980111211
pins: 1 LED1_Green+, 2 LED1_Green-, 3 TD+, 4 CTD, 5 TD-, 6 RD+, 7 CRD, 8 RD-, 10, 11 LED2_Yellow-, 12 LED2_Yellow+, S1 Shield, S2 Shield
text: RJ45 LAN

## 74990100011A
designator T?
WE-RJ45 LAN Transformer, 10/100 Base-T, THT, Port 1x1, Tab Up; Part Number: 74990100011A; PoE: non-PoE; LED (Left-Right): –; USB: No; ComponentLink1Description: Manufacturer; ComponentLink1URL: http://www.we-online.de; ComponentLink2Description: Datasheet; ComponentLink2URL: http://katalog.we-online.de/pbs/datasheet/74990100011A.pdf; Published Date: Dec. 2017; Publisher: Wurth Elektronik; Tab Position: Up; Port Number: 1x1; Data Rate: 10/100 Base-T; Operating Temperature: -40 to +85 degC; Mounting Technology: THT
footprint 74990100011A
pins: 1 TD+, 2 TD-, 3 RD+, 4 CTD, 6 RD-, 7 CRD, S1 Shield, S2 Shield
text: RJ45 LAN

## 74990101210
designator T?
WE-RJ45 LAN Transformer, 10/100 Base-T, THT, Port 1x1, Tab Vertical; Part Number: 74990101210; PoE: non-PoE; LED (Left-Right): yellow-green; USB: No; ComponentLink1Description: Manufacturer; ComponentLink1URL: http://www.we-online.de; ComponentLink2Description: Datasheet; ComponentLink2URL: http://katalog.we-online.de/pbs/datasheet/74990101210.pdf; Published Date: Dec. 2017; Publisher: Wurth Elektronik; Tab Position: Vertical; Port Number: 1x1; Data Rate: 10/100 Base-T; Operating Temperature: -40 to +85 degC; Mounting Technology: THT
footprint 74990101210
pins: 1 TD+, 2 TD-, 3 RD+, 4 TCT, 5 RCT, 6 RD-, 8, 9 LED1_Yellow+, 10 LED1_Yellow-, 11 LED2_Green+, 12 LED2_Green-, S1 Shield, S2 Shield
text: RJ45 LAN

## 74990101212
designator T?
WE-RJ45 LAN Transformer, 10/100 Base-T, THT, Port 1x1, Tab Up; Part Number: 74990101212; PoE: non-PoE; LED (Left-Right): yellow-green; USB: No; ComponentLink1Description: Manufacturer; ComponentLink1URL: http://www.we-online.de; ComponentLink2Description: Datasheet; ComponentLink2URL: http://katalog.we-online.de/pbs/datasheet/74990101212.pdf; Published Date: Dec. 2017; Publisher: Wurth Elektronik; Tab Position: Up; Port Number: 1x1; Data Rate: 10/100 Base-T; Operating Temperature: -40 to +85 degC; Mounting Technology: THT
footprint 74990101212
pins: 1 TD+, 2 CTD, 3 TD-, 4 RD+, 5 CRD, 6 RD-, 8, 9 LED1_Green-, 10 LED1_Green+, 11 LED2_Yellow-, 12 LED2_Yellow+, S1 Shield, S2 Shield
text: RJ45 LAN

## 74990101241
designator T?
WE-RJ45 LAN Transformer, 10/100 Base-T, THT, Port 1x1, Tab Vertical; Part Number: 74990101241; PoE: non-PoE; LED (Left-Right): yellow-green; USB: No; ComponentLink1Description: Manufacturer; ComponentLink1URL: http://www.we-online.de; ComponentLink2Description: Datasheet; ComponentLink2URL: http://katalog.we-online.de/pbs/datasheet/74990101241.pdf; Published Date: Dec. 2017; Publisher: Wurth Elektronik; Tab Position: Vertical; Port Number: 1x1; Data Rate: 10/100 Base-T; Operating Temperature: -40 to +85 degC; Mounting Technology: THT
footprint 74990101241
pins: 1 TD+, 2 CTD, 3 TD-, 4 RD+, 5 CRD, 6 RD-, 8, 9 LED1_Yellow+, 10 LED1_Yellow-, 11 LED2_Green+, 12 LED2_Green-, S1 Shield, S2 Shield
text: RJ45 LAN

## 74990110030
designator T?
WE-RJ45 LAN Transformer, 10/100 Base-T, THT, Port 1x1, Tab Up; Part Number: 74990110030; PoE: non-PoE; LED (Left-Right): –; USB: No; ComponentLink1Description: Manufacturer; ComponentLink1URL: http://www.we-online.de; ComponentLink2Description: Datasheet; ComponentLink2URL: http://katalog.we-online.de/pbs/datasheet/74990110030.pdf; Published Date: Dec. 2017; Publisher: Wurth Elektronik; Tab Position: Up; Port Number: 1x1; Data Rate: 10/100 Base-T; Operating Temperature: 0 to +70 degC; Mounting Technology: THT
footprint 74990110030
pins: 1 TD+, 2 CTD, 3 TD-, 4 RD+, 5 CRD, 6 RD-, 8, S1 Shield, S2 Shield
text: RJ45 LAN

## 74990111211
designator T?
WE-RJ45 LAN Transformer, 10/100 Base-T, THT, Port 1x1, Tab Down; Part Number: 74990111211; PoE: non-PoE; LED (Left-Right): yellow-green; USB: No; ComponentLink1Description: Manufacturer; ComponentLink1URL: http://www.we-online.de; ComponentLink2Description: Datasheet; ComponentLink2URL: http://katalog.we-online.de/pbs/datasheet/74990111211.pdf; Published Date: Dec. 2017; Publisher: Wurth Elektronik; Tab Position: Down; Port Number: 1x1; Data Rate: 10/100 Base-T; Operating Temperature: -40 to +85 degC; Mounting Technology: THT
footprint 74990111211
pins: 1 TD+, 2 TD-, 3 RD+, 4 CTD, 5 CRD, 6 RD-, 8, 9 LED1_Yellow+, 10 LED1_Yellow-, 11 LED2_Green+, 12 LED2_Green-, S1 Shield, S2 Shield
text: RJ45 LAN

## 74990111215A
designator T?
WE-RJ45 LAN Transformer, 10/100 Base-T, THT, Port 1x1, Tab Down; Part Number: 74990111215A; PoE: non-PoE; LED (Left-Right): yellow-green; USB: No; ComponentLink1Description: Manufacturer; ComponentLink1URL: http://www.we-online.de; ComponentLink2Description: Datasheet; ComponentLink2URL: http://katalog.we-online.de/pbs/datasheet/74990111215A.pdf; Published Date: Dec. 2017; Publisher: Wurth Elektronik; Tab Position: Down; Port Number: 1x1; Data Rate: 10/100 Base-T; Operating Temperature: 0 to +70 degC; Mounting Technology: THT
footprint 74990111215A
pins: 1 TD+, 2 CTD, 3 TD-, 4 RD+, 5 CRD, 6 RD-, 8, 9 LED1_Yellow+, 10 LED1_Yellow-, 11 LED2_Green+, 12 LED2_Green-, S1 Shield, S2 Shield
text: RJ45 LAN

## 74990111217
designator T?
WE-RJ45 LAN Transformer, 10/100 Base-T, THT, Port 1x1, Tab Up; Part Number: 74990111217; PoE: non-PoE; LED (Left-Right): yellow-green; USB: No; ComponentLink1Description: Manufacturer; ComponentLink1URL: http://www.we-online.de; ComponentLink2Description: Datasheet; ComponentLink2URL: http://katalog.we-online.de/pbs/datasheet/74990111217.pdf; Published Date: Dec. 2017; Publisher: Wurth Elektronik; Tab Position: Up; Port Number: 1x1; Data Rate: 10/100 Base-T; Operating Temperature: -40 to +85 degC; Mounting Technology: THT
footprint 74990111217
pins: 1 TD+, 2 TD-, 3 RD+, 4 CTD, 5 CRD, 6 RD-, 8, 9 LED1_Yellow+, 10 LED1_Yellow-, 11 LED2_Green+, 12 LED2_Green-, S1 Shield, S2 Shield
text: RJ45 LAN

## 74990112116A
designator T?
WE-RJ45 LAN Transformer, 10/100 Base-T, THT, Port 1x1, Tab Up; Part Number: 74990112116A; PoE: non-PoE; LED (Left-Right): green-yellow; USB: No; ComponentLink1Description: Manufacturer; ComponentLink1URL: http://www.we-online.de; ComponentLink2Description: Datasheet; ComponentLink2URL: http://katalog.we-online.de/pbs/datasheet/74990112116A.pdf; Published Date: Dec. 2017; Publisher: Wurth Elektronik; Tab Position: Up; Port Number: 1x1; Data Rate: 10/100 Base-T; Operating Temperature: -40 to +85 degC; Mounting Technology: THT
footprint 74990112116A
pins: 1 TD+, 2 CTD, 3 TD-, 4 RD+, 5 CRD, 6 RD-, 8, 9 LED1_Yellow-, 10 LED1_Yellow+, 11 LED2_Green-, 12 LED2_Green+, S1 Shield, S2 Shield
text: RJ45 LAN